# Altium integrated library SAMTEC-FTSH-105-01-X-D.IntLib: 1 symbol
Pins are listed as number, name and electrical type; pins without a type are passive.

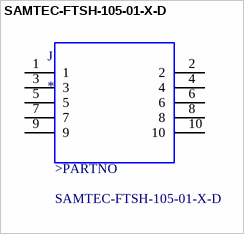
[diagram p0: symbol SAMTEC-FTSH-105-01-X-D]

## SAMTEC-FTSH-105-01-X-D
designator J
Connector Header Through Hole 10 position 0.050" _1.27mm_; MP: FTSH-105-01-F-D; MF: Samtec; Value: *; Package: None; SnapEDA_Link: https://www.snapeda.com/parts/FTSH-105-01-F-D/Samtec%20Inc./view-part/105348/?ref=snap; Price: None; Availability: Unavailable
footprint SAMTEC-FTSH-105-01-X-D
pins: 1, 2, 3, 4, 5, 6, 7, 8, 9, 10
text: >PARTNO